# EAGLE library part EG2208 (library EG2208)
Check availability <https://pricing.snapeda.com/parts/EG2208/E-Switch/view-part?ref=eda>
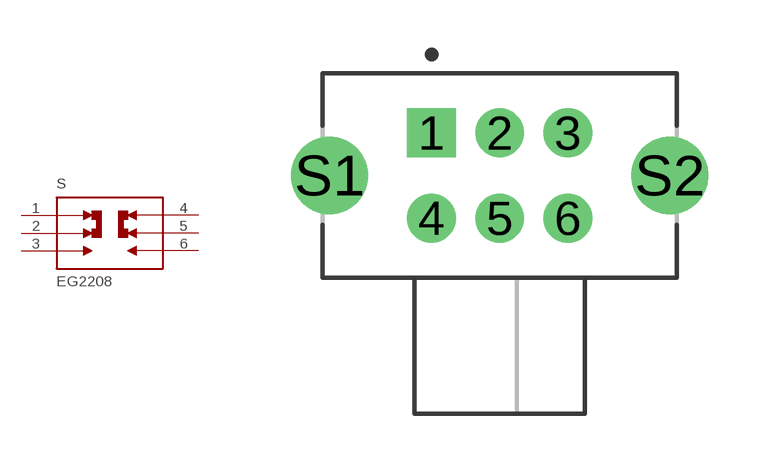
[diagram p0: symbol with the pads of SW_EG2208; footprint SW_EG2208]

Designator prefix S

## EG2208 (Availability: In Stock; Description: 2P2T Sub-miniature Slide Switch; MF: E-Switch; MP: EG2208; Package: None; Price: None; Purchase-URL: https://pricing.snapeda.com/search?q=EG2208&ref=eda)  [SW_EG2208]
1  1  pas
2  2  pas
3  3  pas
4  4  pas
5  5  pas
6  6  pas

## Footprint SW_EG2208 (pad centres in mm)
drill 0.93 square: 1 -2,1.25
drill 0.93: 2 0,1.25; 3 2,1.25; 4 -2,-1.25; 5 0,-1.25; 6 2,-1.25
drill 1.51: S1 -5,0; S2 5,0